# EAGLE library part OPA1662 (library open_covg)
OPA1662AIDGKR
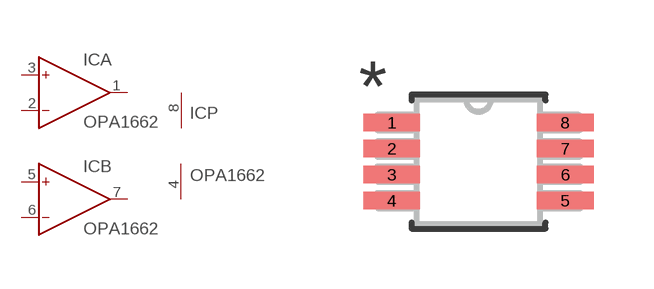
[diagram p14: symbol with the pads of DGK8; footprint DGK8]

Designator prefix IC; gates A=OP-1 B=OP-1 P=PWR+-

## OPA1662  [DGK8]
1  A:OUT  out
2  A:IN-  in
3  A:IN+  in
4  P:V-  pwr
5  B:IN+  in
6  B:IN-  in
7  B:OUT  out
8  P:V+  pwr

## Footprint DGK8 (pad centres in mm)
smd 1.422 x 0.432: 1 -2.172,0.975; 2 -2.172,0.325; 3 -2.172,-0.325; 4 -2.172,-0.975; 5 2.172,-0.975; 6 2.172,-0.325; 7 2.172,0.325; 8 2.172,0.975